# Altium footprint library footprint.PcbLib: 14 footprints
Each footprint in its own frame and in the unit in brackets; x right, y up, seen from the top. Pads: shape width x height; smd on the part's side, far side on the other; paste and mask are expansions set on the pad; w line width, h text height; cw(c..) or ccw(c..) is an arc to the next point about the centre after c.
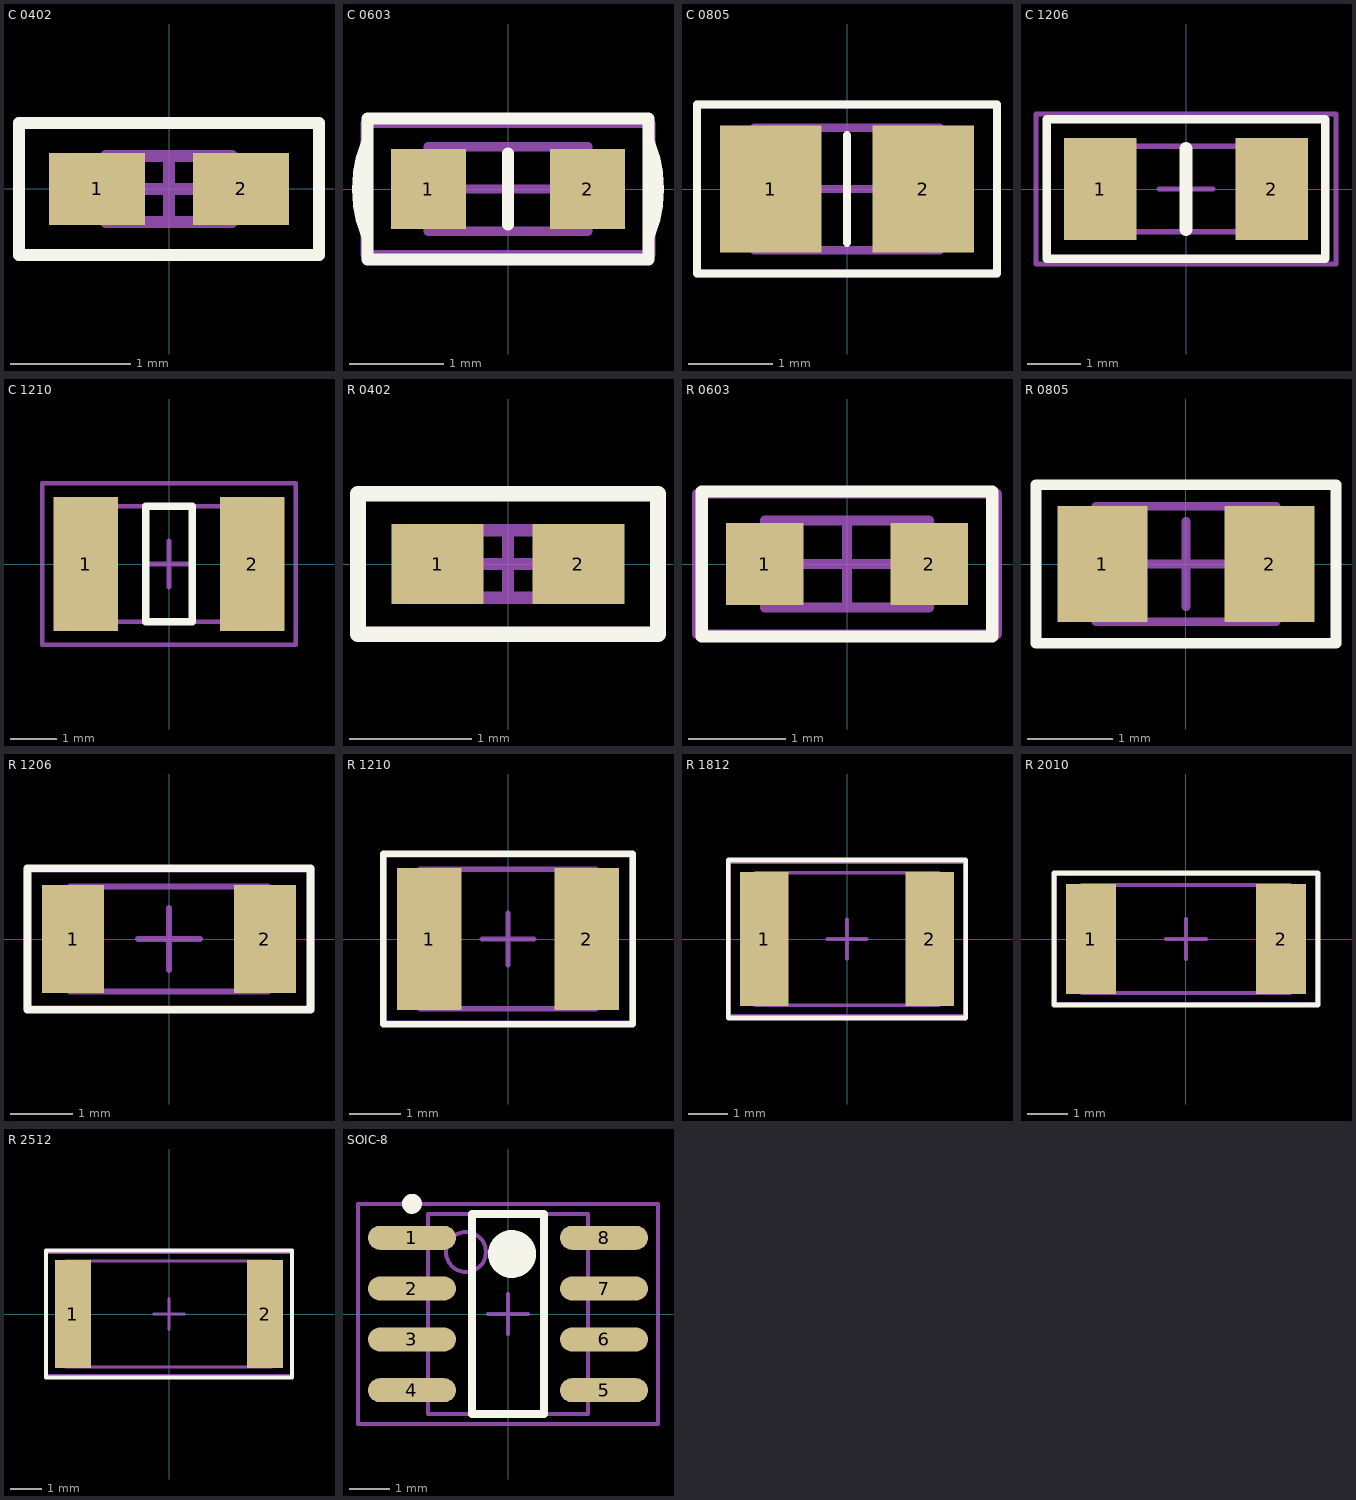
[diagram p0: the footprints below, top view; thin cyan lines are the x and y axes]

## C 0402 [mm] "Chip Capacitor, 2-Leads, Body 1.0x0.5mm, IPC Medium Density"
height 0.55
pads (2):
  rect 0.8x0.6 smd: 1(-0.6,0) 2(0.6,0)
Top Overlay:
  lines w0.1: -1.25,-0.55 1.25,-0.55 1.25,0.55 -1.25,0.55 -1.25,-0.55
Mechanical 13:
  lines w0.1: -0.525,-0.275 0.525,-0.275 0.525,0.275 -0.525,0.275 -0.525,-0.275
Mechanical 15:
  lines w0.1: -0.275,0 0.275,0 ; 0,-0.275 0,0.275 ; -1.25,-0.55 1.25,-0.55 1.25,0.55 -1.25,0.55 -1.25,-0.55
3D body "User Library-CAPC1005X06.step": height 0.6, standoff 0, extent -0.5,-0.25 0.5,0.25

## C 0603 [mm] "Chip Capacitor, 2-Leads, Body 1.6x0.8mm, IPC Medium Density"
height 0.8
pads (2):
  rect 0.8x0.85 smd: 1(-0.85,0) 2(0.85,0)
Top Overlay:
  lines w0.127: -1.503,-0.501 cw(c-0.25,0) -1.503,0.501 ; 0,-0.381 0,0.381 ; 1.503,-0.501 ccw(c0.25,0) 1.503,0.501 ; -1.5,-0.75 1.5,-0.75 1.5,0.75 -1.5,0.75 -1.5,-0.75
Mechanical 13:
  lines w0.1: -0.85,-0.45 0.85,-0.45 0.85,0.45 -0.85,0.45 -0.85,-0.45
Mechanical 15:
  lines w0.1: -0.45,0 0.45,0 ; 0,-0.45 0,0.45 ; -1.525,-0.7 1.525,-0.7 1.525,0.7 -1.525,0.7 -1.525,-0.7
3D body "User Library-Chip Capacitor2.step": height 0.81, standoff 0.01, extent -0.8,-0.432 0.8,0.428

## C 0805 [mm] "Chip Capacitor, 2-Leads, Body 2.0x1.3mm, IPC Medium Density"
height 0.85
pads (2):
  rect 1.2x1.5 smd: 1(-0.9,0) 2(0.9,0)
Top Overlay:
  lines w0.1: 0,-0.635 0,0.635 ; -1.775,-1 -1.775,1 1.775,1 1.775,-1 -1.775,-1
Mechanical 13:
  lines w0.1: -1.1,-0.725 -1.1,0.725 1.1,0.725 1.1,-0.725 -1.1,-0.725
Mechanical 15:
  lines w0.1: -0.5,0 0.5,0 ; 0,-0.5 0,0.5 ; -1.775,-1 1.775,-1 1.775,1 -1.775,1 -1.775,-1
3D body "cap 0805.step": height 0.6, standoff 0, extent -1,-0.64 1,0.61

## C 1206 [mm]
height 0.85
pads (2):
  rect 1.35x1.9 smd: 1(-1.6,0) 2(1.6,0)
Top Overlay:
  lines w0.16: -2.6,-1.3 -2.6,1.3 2.6,1.3 2.6,-1.3 -2.6,-1.3
  lines w0.25: 0,-0.75 0,0.75
Mechanical 13:
  lines w0.1: -1.6,-0.8 -1.6,0.8 1.6,0.8 1.6,-0.8 -1.6,-0.8
Mechanical 15:
  lines w0.1: -0.5,0 0.5,0 ; 0,-0.5 0,0.5 ; -2.8,-1.4 2.8,-1.4 2.8,1.4 -2.8,1.4 -2.8,-1.4
3D body "User Library-CR3216-1206.step": height 0.6, standoff 0, extent -1.6,-0.8 1.6,0.8

## C 1210 [mm]
height 0.85
pads (2):
  rect 1.4x2.9 smd: 1(-1.8,0) 2(1.8,0)
Top Overlay:
  lines w0.16: -0.5,-1.25 0.5,-1.25 0.5,1.25 -0.5,1.25 -0.5,-1.25
Mechanical 13:
  lines w0.1: -1.6,-1.25 1.6,-1.25 1.6,1.25 -1.6,1.25 -1.6,-1.25
Mechanical 15:
  lines w0.1: -0.5,0 0.5,0 ; 0,-0.5 0,0.5 ; -2.75,-1.75 -2.75,1.75 2.75,1.75 2.75,-1.75 -2.75,-1.75
3D body "User Library-SMD CAPACITOR.step": height 0.79, standoff 0.01, extent -1.6,-1.25 1.6,1.25

## R 0402 [mm] "Chip Resistor, 2-Leads, Body 1.0x0.5mm, IPC Medium Density"
height 0.4
pads (2):
  rect 0.75x0.65 smd: 1(-0.575,0) 2(0.575,0)
Top Overlay:
  lines w0.127: -1.225,-0.575 1.225,-0.575 1.225,0.575 -1.225,0.575 -1.225,-0.575
Mechanical 13:
  lines w0.1: -0.525,-0.275 0.525,-0.275 0.525,0.275 -0.525,0.275 -0.525,-0.275
Mechanical 15:
  lines w0.1: -0.275,0 0.275,0 ; 0,-0.275 0,0.275 ; -1.225,-0.575 1.225,-0.575 1.225,0.575 -1.225,0.575 -1.225,-0.575
3D body "User Library-Chip Resistor2 (1).step": height 0.4, standoff 0, extent -0.5,-0.25 0.5,0.25

## R 0603 [mm] "Chip Resistor, 2-Leads, Body 1.6x0.8mm, IPC Medium Density"
height 0.55
pads (2):
  rect 0.8x0.85 smd: 1(-0.85,0) 2(0.85,0)
Top Overlay:
  lines w0.127: -1.5,-0.75 1.5,-0.75 1.5,0.75 -1.5,0.75 -1.5,-0.75
Mechanical 13:
  lines w0.1: -0.85,-0.45 0.85,-0.45 0.85,0.45 -0.85,0.45 -0.85,-0.45
Mechanical 15:
  lines w0.1: -0.45,0 0.45,0 ; 0,-0.45 0,0.45 ; -1.55,-0.725 1.55,-0.725 1.55,0.725 -1.55,0.725 -1.55,-0.725
3D body "User Library-Chip Resistor2.step": height 0.5, standoff 0, extent -0.8,-0.4 0.8,0.4

## R 0805 [mm] "Chip Resistor, 2-Leads, Body 2.0x1.3mm, IPC Medium Density"
height 0.5
pads (2):
  rect 1.05x1.35 smd: 1(-0.975,0) 2(0.975,0)
Top Overlay:
  lines w0.127: -1.75,-0.925 1.75,-0.925 1.75,0.925 -1.75,0.925 -1.75,-0.925
Mechanical 13:
  lines w0.1: -1.05,-0.675 -1.05,0.675 1.05,0.675 1.05,-0.675 -1.05,-0.675
Mechanical 15:
  lines w0.1: -0.5,0 0.5,0 ; 0,-0.5 0,0.5 ; -1.75,-0.925 -1.75,0.925 1.75,0.925 1.75,-0.925 -1.75,-0.925
3D body "RESC2012X50N.step": height 0.5, standoff 0, extent -1,-0.61 1,0.59

## R 1206 [mm] "Chip Resistor, 2-Leads, Body 3.1x1.6mm, IPC Medium Density"
height 0.65
pads (2):
  rect 1x1.75 smd: 1(-1.55,0) 2(1.55,0)
Top Overlay:
  lines w0.127: -2.286,-1.143 2.286,-1.143 2.286,1.143 -2.286,1.143 -2.286,-1.143
Mechanical 13:
  lines w0.1: -1.6,-0.85 -1.6,0.85 1.6,0.85 1.6,-0.85 -1.6,-0.85
Mechanical 15:
  lines w0.1: -0.5,0 0.5,0 ; 0,-0.5 0,0.5 ; -2.3,-1.125 -2.3,1.125 2.3,1.125 2.3,-1.125 -2.3,-1.125
3D body "User Library-Chip Resistor2.step": height 0.6, standoff 0, extent -1.6,-0.8 1.6,0.8

## R 1210 [mm] "Chip Resistor, 2-Leads, Body 3.2x2.5mm, IPC Medium Density"
height 0.7
pads (2):
  rect 1.25x2.75 smd: 1(-1.525,0) 2(1.525,0)
Top Overlay:
  lines w0.127: -2.413,-1.651 2.413,-1.651 2.413,1.651 -2.413,1.651 -2.413,-1.651
Mechanical 13:
  lines w0.1: -1.7,-1.35 1.7,-1.35 1.7,1.35 -1.7,1.35 -1.7,-1.35
Mechanical 15:
  lines w0.1: -0.5,0 0.5,0 ; 0,-0.5 0,0.5 ; -2.4,-1.625 2.4,-1.625 2.4,1.625 -2.4,1.625 -2.4,-1.625
3D body "User Library-Chip Resistor2.step": height 0.7, standoff 0, extent -1.6,-1.25 1.6,1.25

## R 1812 [mm] "Chip Resistor, 2-Leads, Body 4.5x3.2mm, IPC Medium Density"
height 0.7
pads (2):
  rect 1.25x3.45 smd: 1(-2.125,0) 2(2.125,0)
Top Overlay:
  lines w0.127: -3.048,-2.032 -3.048,2.032 3.048,2.032 3.048,-2.032 -3.048,-2.032
Mechanical 13:
  lines w0.1: -2.35,-1.7 2.35,-1.7 2.35,1.7 -2.35,1.7 -2.35,-1.7
Mechanical 15:
  lines w0.1: -0.5,0 0.5,0 ; 0,-0.5 0,0.5 ; -3.025,-1.975 3.025,-1.975 3.025,1.975 -3.025,1.975 -3.025,-1.975
3D body "User Library-Chip Resistor2 (1).step": height 0.7, standoff 0, extent -2.25,-1.6 2.25,1.6

## R 2010 [mm] "Chip Resistor, 2-Leads, Body 5.0x2.5mm, IPC Medium Density"
height 0.8
pads (2):
  rect 1.25x2.75 smd: 1(-2.375,0) 2(2.375,0)
Top Overlay:
  lines w0.127: -3.302,-1.651 -3.302,1.651 3.302,1.651 3.302,-1.651 -3.302,-1.651
Mechanical 13:
  lines w0.1: -2.6,-1.35 -2.6,1.35 2.6,1.35 2.6,-1.35 -2.6,-1.35
Mechanical 15:
  lines w0.1: -0.5,0 0.5,0 ; 0,-0.5 0,0.5 ; -3.275,-1.625 -3.275,1.625 3.275,1.625 3.275,-1.625 -3.275,-1.625
3D body "User Library-Chip Resistor2 (2).step": height 0.7, standoff 0, extent -2.5,-1.25 2.5,1.25

## R 2512 [mm] "Chip Resistor, 2-Leads, Body 6.4x3.2mm, IPC Medium Density"
height 0.8
pads (2):
  rect 1.15x3.45 smd: 1(-3.075,0) 2(3.075,0)
Top Overlay:
  lines w0.127: -3.937,-2.032 3.937,-2.032 3.937,2.032 -3.937,2.032 -3.937,-2.032
Mechanical 13:
  lines w0.1: -3.3,-1.7 -3.3,1.7 3.3,1.7 3.3,-1.7 -3.3,-1.7
Mechanical 15:
  lines w0.1: -0.5,0 0.5,0 ; 0,-0.5 0,0.5 ; -3.925,-1.975 -3.925,1.975 3.925,1.975 3.925,-1.975 -3.925,-1.975
3D body "User Library-Chip Resistor2 (3).step": height 0.76, standoff 0, extent -3.2,-1.6 3.2,1.6

## SOIC-8 [mm] "SOIC, 8-Leads, Body 5.0x4.0mm (max), Pitch 1.27mm, IPC Medium Density"
height 1.75
pads (8):
  oval 2.2x0.6 smd: 1(-2.4,1.905) 2(-2.4,0.635) 3(-2.4,-0.635) 4(-2.4,-1.905) 5(2.4,-1.905) 6(2.4,-0.635) 7(2.4,0.635) 8(2.4,1.905)
Top Overlay:
  circle w0.6: c0.1,1.5 r0.3
  circle w0.25: c-2.4,2.755 r0.125
  lines w0.2: -0.9,-2.5 0.9,-2.5 0.9,2.5 -0.9,2.5 -0.9,-2.5
Mechanical 13:
  circle w0.1: c-1.05,1.55 r0.5
  lines w0.1: -2,-2.5 2,-2.5 2,2.5 -2,2.5 -2,-2.5
Mechanical 15:
  lines w0.1: -0.5,0 0.5,0 ; 0,-0.5 0,0.5 ; -3.75,-2.75 3.75,-2.75 3.75,2.75 -3.75,2.75 -3.75,-2.75
3D body "User Library-SOIC-8-1.step": height 1.75, standoff 0, extent -3,-2.487 3,2.413